# Altium footprint library generic 32u4 lib 1.PcbLib: 18 footprints (part 2 of 2)
Each footprint in its own frame and in the unit in brackets; x right, y up, seen from the top. Pads: shape width x height; smd on the part's side, far side on the other; paste and mask are expansions set on the pad; w line width, h text height; cw(c..) or ccw(c..) is an arc to the next point about the centre after c.
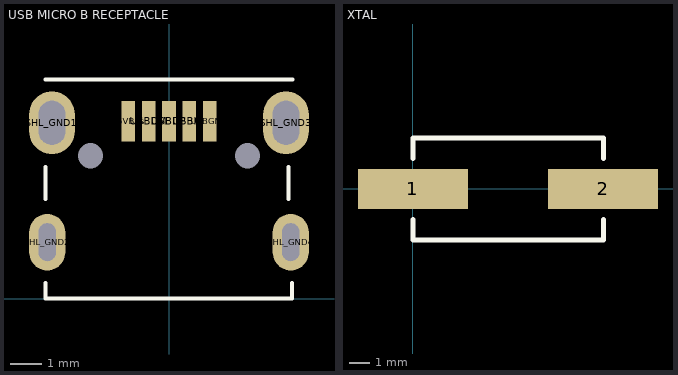
[diagram p1: the footprints below, top view; thin cyan lines are the x and y axes]

## USB MICRO B RECEPTACLE [mm] "Wurth Electronics Inc - 629105150521"
height 2.6
pads (11):
  rect 0.432x1.3 smd: +5VBus(-1.3,5.65) USBDM(-0.65,5.65) USBDP(0,5.65) USBGND(1.3,5.65) USBID(0.65,5.65)
  round 0 hole 0.8 unplated: H1(-2.5,4.55) H2(2.5,4.55)
  oval 1.45x2 hole 0.85 slot 1.4 at 90 deg: SHL_GND1(-3.725,5.6) SHL_GND3(3.725,5.6)
  oval 1.15x1.8 hole 0.55 slot 1.2 at 90 deg: SHL_GND2(-3.875,1.8) SHL_GND4(3.875,1.8)
Top Overlay:
  lines w0.127: -3.937,0.508 -3.937,0 3.912,0 3.912,0.508 ; -3.937,3.175 -3.937,4.191 ; -3.937,6.985 3.937,6.985 ; 3.81,3.175 3.81,4.191
  text "." at -1.397,6.604 h1.27
Top Solder:
  region: -1.651,6.477 1.651,6.477 1.651,4.826 -1.651,4.826

## XTAL [mm]
height 4.1
pads (2):
  rect 5.5x2 smd: 1(0,0) 2(9.5,0)
Top Overlay:
  lines w0.254: 0,-1.524 0,-2.54 9.525,-2.54 9.525,-1.524 ; 0,1.524 0,2.54 9.525,2.54 9.525,1.524
3D body "User Library-Crystal HC49_US-SM.STEP": height 4.3, standoff 0, extent -1.701,-2.415 11.099,2.415